# Altium footprint library JST connector.PcbLib: 1 footprints
Each footprint in its own frame and in the unit in brackets; x right, y up, seen from the top. Pads: shape width x height; smd on the part's side, far side on the other; paste and mask are expansions set on the pad; w line width, h text height; cw(c..) or ccw(c..) is an arc to the next point about the centre after c.
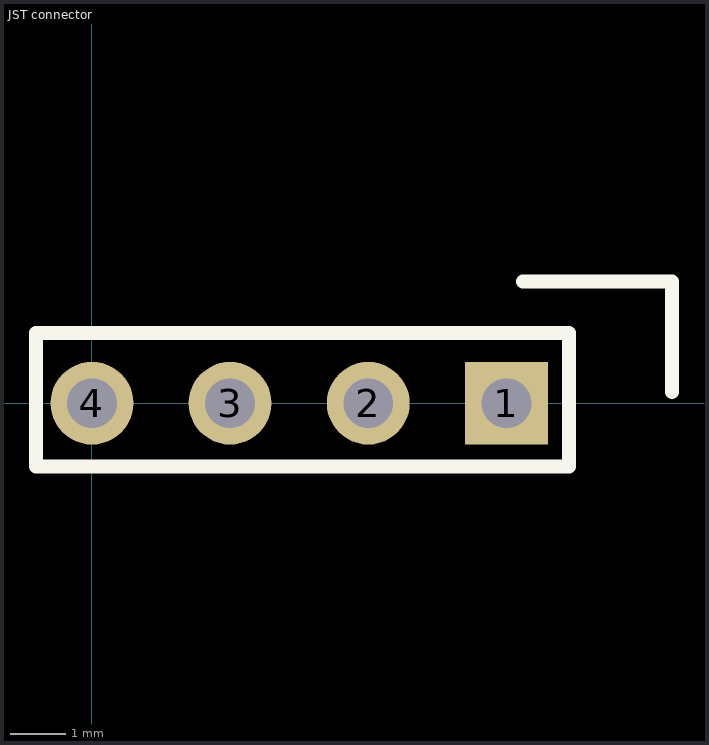
[diagram p0: the footprint, top view; thin cyan lines are the x and y axes]

## JST connector [mm]
pads (4):
  rect 1.5x1.5 hole 0.9: 1(7.5,0)
  round 1.5 hole 0.9: 2(5,0) 3(2.5,0) 4(0,0)
Top Overlay:
  lines w0.254: 7.8,2.2 8.35,2.2 9.45,2.2 10.5,2.2 10.5,0.2 ; -1.016,-1.143 -1.016,1.27 2.667,1.27 8.636,1.27 8.636,-1.143 -1.016,-1.143
3D body: height 0.25, standoff -2, extent -1.4,-1.4 -1.4,-1.4
3D body: height 0.25, standoff -2, extent -1.4,-1.4 -1.4,-1.4
3D body: height 6, standoff 0, extent -2.44,-1.9 10.06,1.9